# EAGLE library part TPD2E001 (library USB - Suppressor Dioden)
Name des Bauteiles: -->TPD2E001 Daten:Array / 3x3 QFN - DRS, IC USB ESD Protection Artikelnummer:#045293 Datenblatt:Siehe Hesch Suche ! __________________________________________ generated by Eagle Description Tool am : 28.11.2014 08:00:41 erstellt von: Hm
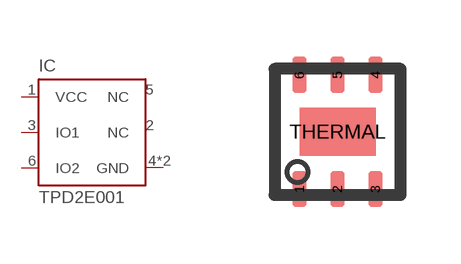
[diagram p1: symbol with the pads of DRS; footprint DRS]

Designator prefix IC

## TPD2E001DRSR  [DRS]
1  VCC
2  NC
3  IO1
4  GND
5  NC
6  IO2
THERMAL  GND

## Footprint DRS (pad centres in mm)
smd 0.35 x 0.9: 1 -0.95,-1.425; 2 0,-1.425; 3 0.95,-1.425; 4 0.95,1.425; 5 0,1.425; 6 -0.95,1.425
smd 1.9 x 1.2: THERMAL 0,0